# Altium schematic symbol library amp.SchLib: 167 symbols (part 2 of 2)
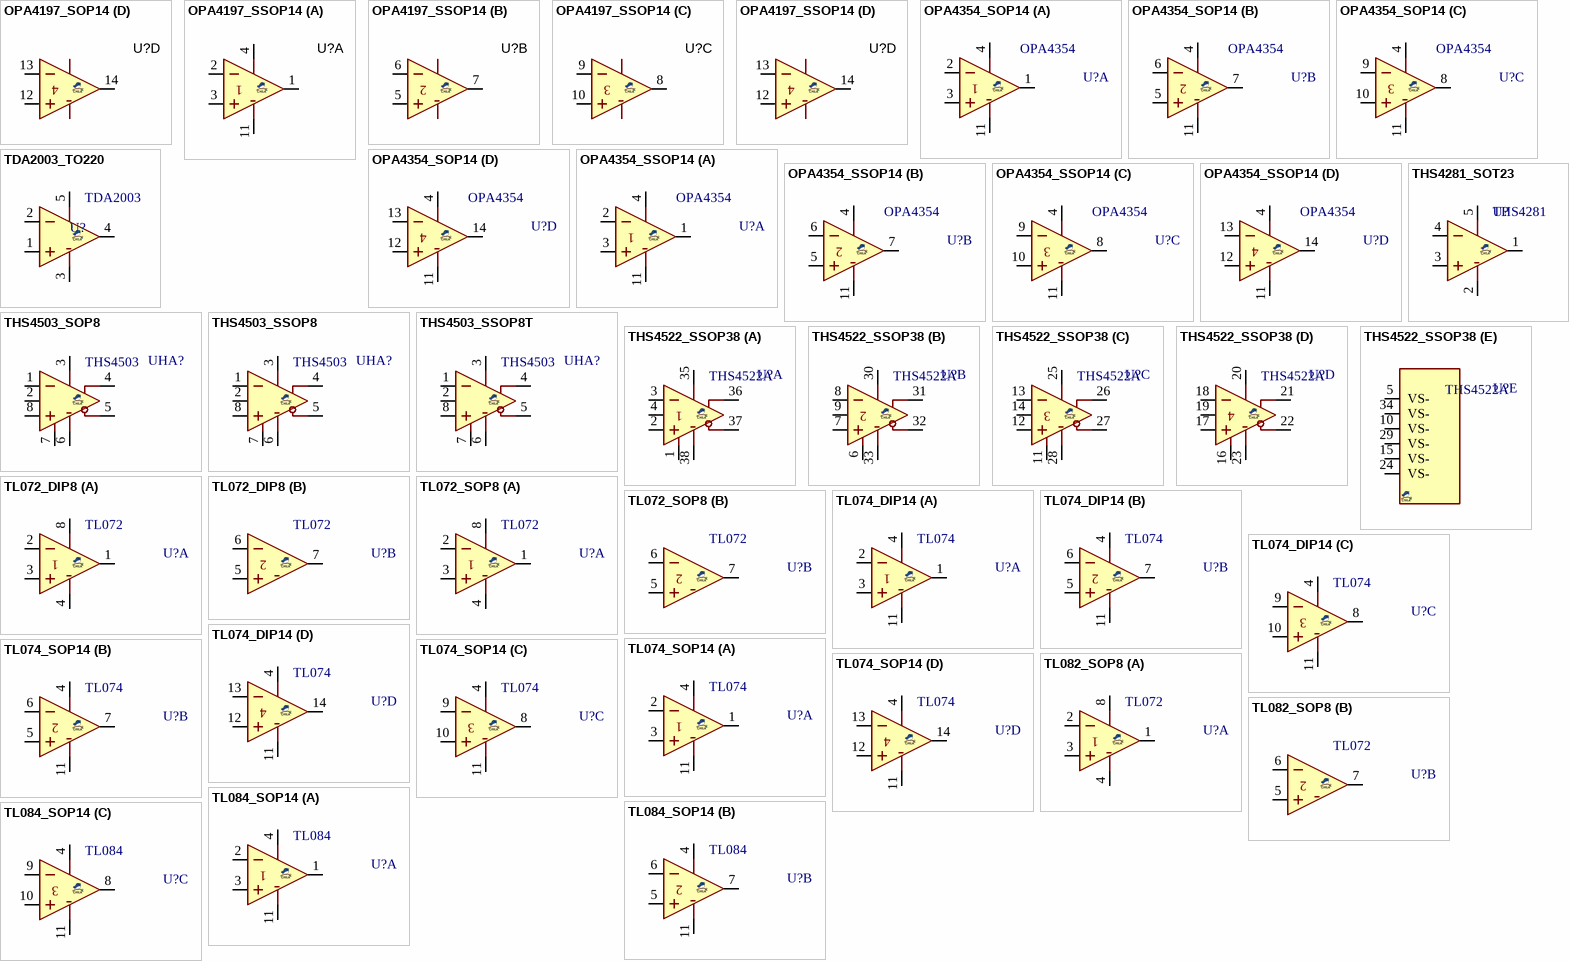
[diagram p8: symbols OPA4197_SOP14 to TL084_SOP14]

## OPA4354_SOP14
designator U?, comment OPA4354
AMP, Low Noise, Rail-to-Rail, Single-Supply; MANF: Texas Instruments; MANF_P#: OPA4354AID; PARAM2: 2.5~5.5V, 6.5nV/√Hz, 250MHz BW; PARAM: 100mA out, 3pA in, 150v/us, -40~125°C; PRICE: 3.8$; VALUE: OPA4354
footprint SO_14 (SOP, SOIC, 3.9mm width, 1.27mm pitch,)
part A pins: 1 OUT, 2 IN-, 3 IN+, 4 V+, 11 V-
part B pins: 4 V+, 5 IN+, 6 IN-, 7 OUT, 11 V-
part C pins: 4 V+, 8 OUT, 9 IN-, 10 IN+, 11 V-
part D pins: 4 V+, 11 V-, 12 IN+, 13 IN-, 14 OUT

## OPA4354_SSOP14
designator U?, comment OPA4354
AMP, Low Noise, Rail-to-Rail, Single-Supply; MANF: Texas Instruments; MANF_P#: OPA4354AIPW; PARAM2: 2.5~5.5V, 6.5nV/√Hz, 250MHz BW; PARAM: 100mA out, 3pA in, 150v/us, -40~125°C; PRICE: 3.8$; VALUE: OPA4354
footprint SOG65_14 (PW TSSOP (TI), MO-153-AB (JEDEC), 14Lead, pitch: 0.65mm, 5x4.4x1.2mm)
part A pins: 1 OUT, 2 IN-, 3 IN+, 4 V+, 11 V-
part B pins: 4 V+, 5 IN+, 6 IN-, 7 OUT, 11 V-
part C pins: 4 V+, 8 OUT, 9 IN-, 10 IN+, 11 V-
part D pins: 4 V+, 11 V-, 12 IN+, 13 IN-, 14 OUT

## TDA2003_TO220
designator U?, comment TDA2003
AMP, Audio, Power Amp 10W; MANF: ST; MANF_P#: TDA2003; VALUE: TDA2003
footprint TO220_5_T05D (TO-220 BEND, T05D)
pins: 1 IN+, 2 IN-, 3 V-, 4 VOUT, 5 V+

## THS4281_SOT23
designator U?, comment THS4281
AMP, High Speed, Very Lo-Pwr, rail-to-rail; MANF: Texas Instruments; MANF_P#: THS4281DBV; VALUE: THS4281
footprint SOT23_5 (SOT-23-5, SOT25, SOT-25, DBV(R-PDSO-G5), TSOT23-5, SC-74A, SOT23-5, S5-T (LINEAR), MO-178AA, MO-193AB(JEDEC), MF05A (NS), TSOP-6(ON), UJ-5 (AD))
pins: 1 OUT, 2 V-, 3 IN+, 4 IN-, 5 V+

## THS4503_SOP8
designator UHA?, comment THS4503
AMP, Differential, Hi-Sp, Fully-Diff; MANF: Texas Instruments; PARAM: 300MHz BW; MANF_P#: THS4503ID; PRICE: 1= 11.26$; PARAM2: PARAM2; VALUE: THS4503
footprint SO_8
pins: 1 IN-, 2 VCM (power), 3 VS+ (power), 4 OUT+, 5 OUT-, 6 VS- (power), 7 PD#, 8 IN+

## THS4503_SSOP8
designator UHA?, comment THS4503
AMP, Differential, Hi-Sp, Fully-Diff; MANF: Texas Instruments; PARAM: 300MHz BW; MANF_P#: THS4503IDGK; PRICE: 1= 11.26$; PARAM2: PARAM2; VALUE: THS4503
footprint SOG65_8_3 (pitch: 0.65mm, 3.0mmX3.0mm, SSOP DCT SM8 (TI), TSSOP8, MICRO8, DGK, MSOP8, RM-8, MS8, MSOP-8, usop8/8uSOP)
pins: 1 IN-, 2 VCM (power), 3 VS+ (power), 4 OUT+, 5 OUT-, 6 VS- (power), 7 PD#, 8 IN+

## THS4503_SSOP8T
designator UHA?, comment THS4503
AMP, Differential, Hi-Sp, Fully-Diff; MANF: Texas Instruments; PARAM: 300MHz BW; MANF_P#: THS4503IDGN; PRICE: 1= 11.26$; PARAM2: PARAM2; VALUE: THS4503
footprint SOG65_8T_3
pins: 1 IN-, 2 VCM (power), 3 VS+ (power), 4 OUT+, 5 OUT-, 6 VS- (power), 7 PD#, 8 IN+

## THS4522_SSOP38
designator U?, comment THS4522A
AMP, Quad, Differential, Hi-Sp, Fully-Diff; MANF: Texas Instruments; MANF_P#: THS4524IDBT; PARAM: 145MHz BW; VALUE: THS4522A
footprint SOG50_38 (38L TSSOP (MAXIM),38Lead, pitch: 0.5mm, 10x4.4x1.2mm)
part A pins: 1 PD#1, 2 I1P, 3 I1N, 4 CM1 (power), 35 VS1+ (power), 36 O1P, 37 O1N, 38 VS1- (power)
part B pins: 6 PD#2, 7 I2P, 8 I2N, 9 CM2 (power), 30 VS2+ (power), 31 O2P, 32 O2N, 33 VS2- (power)
part C pins: 11 PD#3, 12 I3P, 13 I3N, 14 CM3 (power), 25 VS3+ (power), 26 O3P, 27 O3N, 28 VS3- (power)
part D pins: 16 PD#4, 17 I4P, 18 I4N, 19 CM4 (power), 20 VS4+ (power), 21 O4P, 22 O4N, 23 VS4- (power)
part E pins: 5 VS- (power), 10 VS- (power), 15 VS- (power), 24 VS- (power), 29 VS- (power), 34 VS- (power)

## TL072_DIP8
designator U?, comment TL072
AMP, Dual, Lo-Noise, JFET Input; MANF: Texas Instruments; MANF_P#: TL072IP; VALUE: TL072
footprint DIP_8 (DIP, pitch 2.54mm, 300mil Width)
part A pins: 1 OUT1, 2 IN1-, 3 IN2+, 4 V-, 8 V+
part B pins: 5 IN2+, 6 IN2-, 7 OUT2

## TL072_SOP8
designator U?, comment TL072
AMP, Dual, Lo-Noise, JFET Input; MANF: Texas Instruments; MANF_P#: TL072CDR, TL072IDR; VALUE: TL072
footprint SO_8
part A pins: 1 OUT1, 2 IN1-, 3 IN2+, 4 V-, 8 V+
part B pins: 5 IN2+, 6 IN2-, 7 OUT2

## TL074_DIP14
designator U?, comment TL074
AMP, Quad, Low-Noise JFET-Input; MANF: Texas Instruments; MANF_P#: TL074CN, TL074BCN; VALUE: TL074
footprint DIP_14 (DIP, pitch 2.54mm, 300mil Width)
pins on every part: 4 V+, 11 V-
part A pins: 1 OUT, 2 IN-, 3 IN+
part B pins: 5 IN+, 6 IN-, 7 OUT
part C pins: 8 OUT, 9 IN-, 10 IN+
part D pins: 12 IN+, 13 IN-, 14 OUT

## TL074_SOP14
designator U?, comment TL074
AMP, Quad, Low-Noise JFET-Input; MANF: Texas Instruments, ST; MANF_P#: TL074CD, TL074ACD, TL074QDREP, TL074BCD, TL074ID, TL074MDEP; VALUE: TL074
footprint SO_14
pins on every part: 4 V+, 11 V-
part A pins: 1 OUT, 2 IN-, 3 IN+
part B pins: 5 IN+, 6 IN-, 7 OUT
part C pins: 8 OUT, 9 IN-, 10 IN+
part D pins: 12 IN+, 13 IN-, 14 OUT

## TL082_SOP8
designator U?, comment TL072
AMP, Dual, Lo-Noise, JFET Input; MANF: Texas Instruments, ST; MANF_P#: TL082CD, TL082ID, TL082BCD, TL082CMX; VALUE: TL072
footprint SO_8
part A pins: 1 OUT1, 2 IN1-, 3 IN2+, 4 V-, 8 V+
part B pins: 5 IN2+, 6 IN2-, 7 OUT2

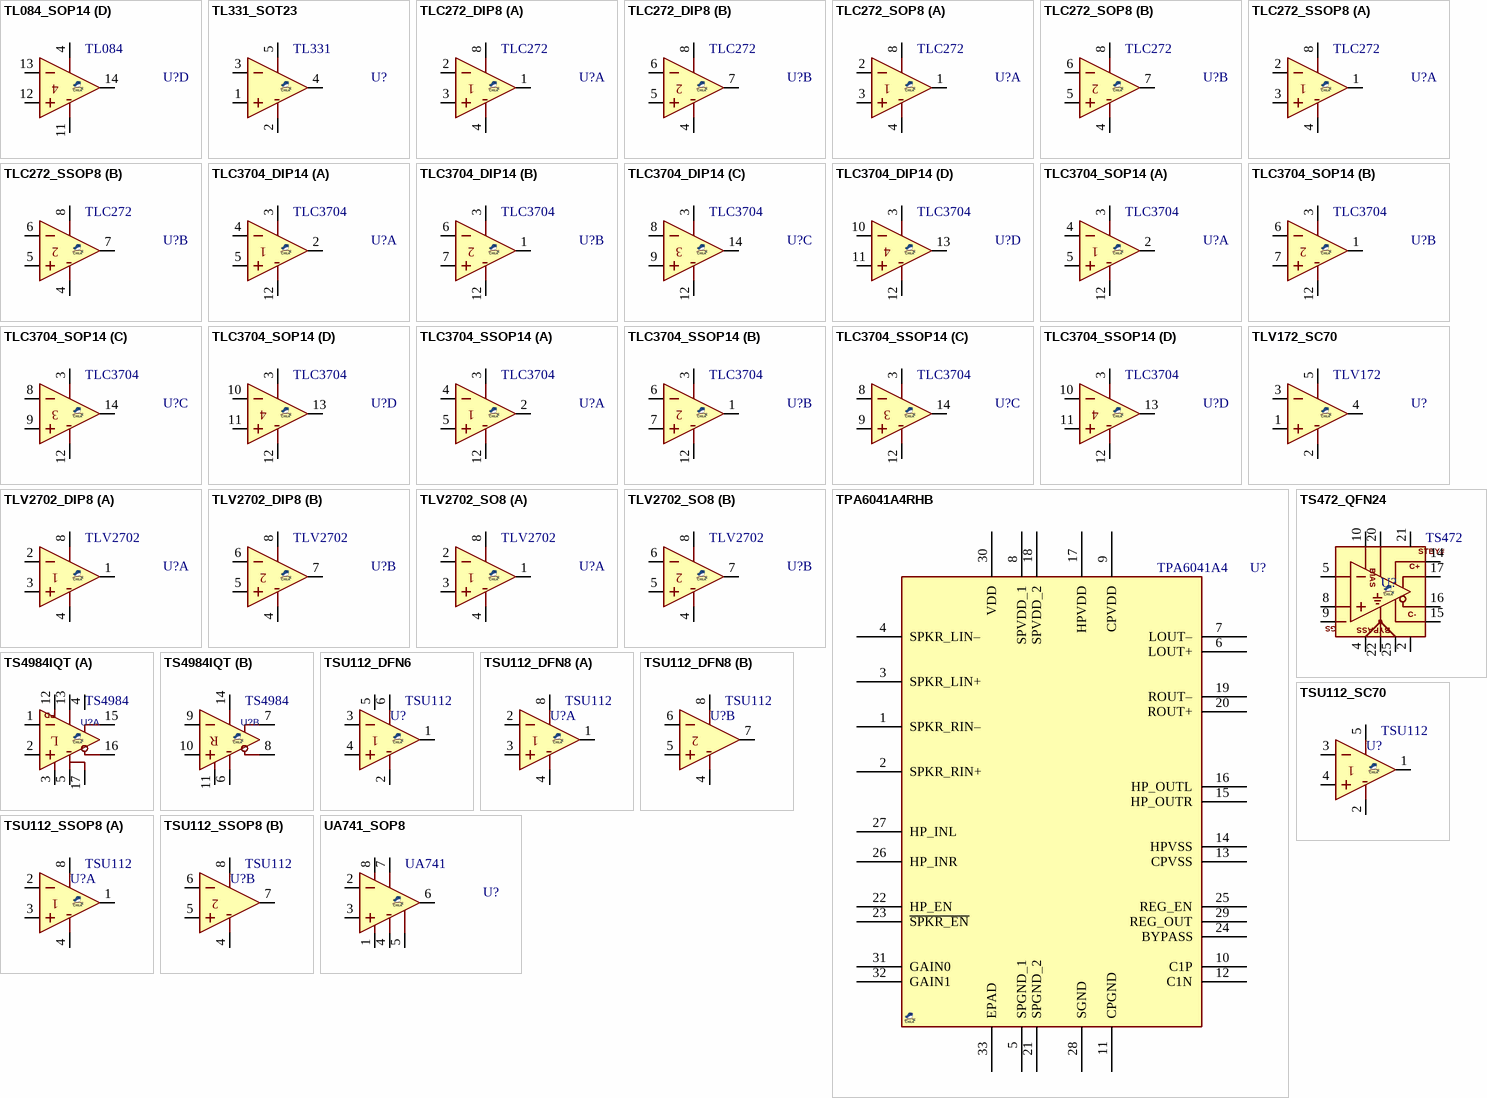
[diagram p7: symbols TL084_SOP14 to UA741_SOP8]

## TL084_SOP14
designator U?, comment TL084
AMP, Quad, Low-Noise JFET-Input, LowPower; MANF: Texas Instruments, ST; MANF_P#: TL084ID; PARAM2: ±18VCC, ±30Vindiff, -40~85oC; VALUE: TL084
footprint SO_14
pins on every part: 4 V+, 11 V-
part A pins: 1 OUT, 2 IN-, 3 IN+
part B pins: 5 IN+, 6 IN-, 7 OUT
part C pins: 8 OUT, 9 IN-, 10 IN+
part D pins: 12 IN+, 13 IN-, 14 OUT

## TL331_SOT23
designator U?, comment TL331
Comparator, Low input 25nA; MANF: ON; MANF_P#: TL331SN4T3G, TL331VSN4T3G; PARAM2: 2~36V/±1~±18V; PARAM: 25nA INPUT, -40~125oC; PRICE: 0.6$; VALUE: TL331
footprint SOT23_5 (SOT-23-5, SOT25, SOT-25, DBV(R-PDSO-G5), TSOT23-5, SC-74A, SOT23-5, S5-T (LINEAR), MO-178AA, MO-193AB(JEDEC), MF05A (NS), TSOP-6(ON), UJ-5 (AD), 0.95mm pitch 3X1.5mm)
pins: 1 IN+, 2 V-, 3 IN-, 4 OUT, 5 V+

## TLC272_DIP8
designator U?, comment TLC272
AMP, Dual,; MANF: Texas Instruments; MANF_P#: TLC272CP, TLC272IP; VALUE: TLC272
footprint DIP_8 (DIP, pitch 2.54mm, 300mil Width)
part A pins: 1 OUT, 2 IN-, 3 IN+, 4 V-, 8 V+
part B pins: 4 V-, 5 IN+, 6 IN-, 7 OUT, 8 V+

## TLC272_SOP8
designator U?, comment TLC272
AMP, Dual,; MANF: Texas Instruments; MANF_P#: TLC272CD, TLC272AID, TLC272ID, TLC272BID, TLC272CPS, TLC272BCD, TLC272AID; VALUE: TLC272
footprint SO_8
part A pins: 1 OUT, 2 IN-, 3 IN+, 4 V-, 8 V+
part B pins: 4 V-, 5 IN+, 6 IN-, 7 OUT, 8 V+

## TLC272_SSOP8
designator U?, comment TLC272
AMP, Dual,; MANF: Texas Instruments; MANF_P#: TLC272CPW; VALUE: TLC272
footprint SOG65_8 (PW TSSOP (TI), MO-153 (JEDEC), 8Lead, pitch: 0.65mm, 3x4.4x1.2mm)
part A pins: 1 OUT, 2 IN-, 3 IN+, 4 V-, 8 V+
part B pins: 4 V-, 5 IN+, 6 IN-, 7 OUT, 8 V+

## TLC3704_DIP14
designator U?, comment TLC3704
Comparator, Quad, Micropower Push-Pull Output; MANF: Texas Instruments; MANF_P#: TLC3704IN, TLC3704CN; PARAM2: +3~+16 V; VALUE: TLC3704
footprint DIP_14 (DIP, pitch 2.54mm, 300mil Width)
pins on every part: 3 V+, 12 V-
part A pins: 2 OUT, 4 IN-, 5 IN+
part B pins: 1 OUT, 6 IN-, 7 IN+
part C pins: 8 IN-, 9 IN+, 14 OUT
part D pins: 10 IN-, 11 IN+, 13 OUT

## TLC3704_SOP14
designator U?, comment TLC3704
Comparator, Quad, Micropower Push-Pull Output; MANF: Texas Instruments; MANF_P#: TLC3704ID, TLC3704CD; PARAM2: +3~+16 V; VALUE: TLC3704
footprint SO_14
pins on every part: 3 V+, 12 V-
part A pins: 2 OUT, 4 IN-, 5 IN+
part B pins: 1 OUT, 6 IN-, 7 IN+
part C pins: 8 IN-, 9 IN+, 14 OUT
part D pins: 10 IN-, 11 IN+, 13 OUT

## TLC3704_SSOP14
designator U?, comment TLC3704
Comparator, Quad, Micropower Push-Pull Output; MANF: Texas Instruments; MANF_P#: TLC3704IPW, TLC3704CPW; PARAM2: +3~+16V; VALUE: TLC3704
footprint SOG65_14 (PW TSSOP (TI), MO-153-AB (JEDEC), 14Lead, pitch: 0.65mm, 5x4.4x1.2mm)
pins on every part: 3 V+, 12 V-
part A pins: 2 OUT, 4 IN-, 5 IN+
part B pins: 1 OUT, 6 IN-, 7 IN+
part C pins: 8 IN-, 9 IN+, 14 OUT
part D pins: 10 IN-, 11 IN+, 13 OUT

## TLV172_SC70
designator U?, comment TLV172
AMP, Lo-Noise, 10MHz; MANF: Texas Instruments; MANF_P#: TLV172IDCK; PARAM2: 4.5~36V/±2.25~±18V; PARAM: 10MHz, -40~125oC; PRICE: 1.1$; VALUE: TLV172
footprint SOT353_5 (SC-88A, SC70-5, SOT-353, DCK (TI), 0.65mm pitch 2X1.3mm body)
pins: 1 IN+, 2 V-, 3 IN-, 4 OUT, 5 V+

## TLV2702_DIP8
designator U?, comment TLV2702
AMP, Dual, NANOPOWER, PUSH-PULL COMPARATORS; MANF: Texas Instruments; MANF_P#: TLV2702IP; VALUE: TLV2702
footprint DIP_8 (DIP, pitch 2.54mm, 300mil Width)
part A pins: 1 OUT, 2 IN-, 3 IN+, 4 V-, 8 V+
part B pins: 4 V-, 5 IN+, 6 IN-, 7 OUT, 8 V+

## TLV2702_SO8
designator U?, comment TLV2702
AMP, Dual, NANOPOWER, PUSH-PULL COMPARATORS; MANF: Texas Instruments; MANF_P#: TLV2702ID; VALUE: TLV2702
footprint SO_8
part A pins: 1 OUT, 2 IN-, 3 IN+, 4 V-, 8 V+
part B pins: 4 V-, 5 IN+, 6 IN-, 7 OUT, 8 V+

## TPA6041A4RHB
designator U?, comment TPA6041A4
AMP, AUDIO, PWR 2.6W, AB 32VQFN; MANF: Texas Instruments; MANF_P#: TPA6041A4RHB; PARAM2: 4.5~5.5V; PRICE: 1=3, 10=2.707, 25=2.4252, 100=2.1808, 250=1.9364, 500=1.692, 1000=1.4006 (USD); VALUE: TPA6041A4
footprint QFN50_32T (QFN, 32, 5X5mm, 0.5mm)
pins: 1 SPKR_RIN–, 2 SPKR_RIN+, 3 SPKR_LIN+, 4 SPKR_LIN–, 5 SPGND_1, 6 LOUT+, 7 LOUT–, 8 SPVDD_1, 9 CPVDD, 10 C1P, 11 CPGND, 12 C1N, 13 CPVSS, 14 HPVSS, 15 HP_OUTR, 16 HP_OUTL, 17 HPVDD, 18 SPVDD_2, 19 ROUT–, 20 ROUT+, 21 SPGND_2, 22 HP_EN, 23 ~{SPKR_EN}, 24 BYPASS, 25 REG_EN, 26 HP_INR, 27 HP_INL, 28 SGND, 29 REG_OUT, 30 VDD, 31 GAIN0, 32 GAIN1, 33 EPAD

## TS472_QFN24
designator U?, comment TS472
AMP, Low noise microphone preamp; MANF: STMicroelectronics; MANF_P#: TS472IQT; PARAM2: 2.2~5.5V, 10nV/√Hz, 40KHz BW; PARAM: 2V mic bias output, -40~85°C; PRICE: 1.3$; VALUE: TS472
footprint QFN50_24T (MO-220 (JEDEC), RGE S-PQFP-N24 (TI), 4X4mm, 0.5mm, HVQFN24)
pins: 2 BYPASS, 4 GND, 5 IN-, 8 IN+, 9 GAINSELECT, 10 BIAS, 14 C+, 15 C-, 16 OUT-, 17 OUT+, 20 VCC, 21 ~{STBY}, 22 GND, 25 EP
text: STBY#; GS

## TS4984IQT
designator U?, comment TS4984
AMP, AUDIO, PWR 1.2W, 2.2-5.5V AB 16TQFN; MANF: ST Microelectronics; MANF_P#: TS4984IQT; PARAM2: 2.2-5.5V; PARAM: 1.2W; VALUE: TS4984
footprint QFN50_16T_4X4 (QFN, 16, 4X4mm, 0.5mm)
part A pins: 1 IN-L, 2 IN+L, 3 BYPASSL, 4 NC, 5 GND1 (power), 12 STBY#, 13 VCC1 (power), 15 VO+L, 16 VO-L, 17 EP (power)
part B pins: 6 GND2 (power), 7 VO+R, 8 VO-R, 9 IN-R, 10 IN+R, 11 BYPASSR, 14 VCC2 (power)
part A text: PD; L
part B text: R

## TSU112_DFN6
designator U?, comment TSU112
AMP, Low-Power; MANF: STMicroelectronics; MANF_P#: TSU111IQ1T; PARAM2: 1.5~5.5VCC, 150uVoffset, 3.8uVin noise; PARAM: 10pA input, 900nA, -40~85°C; PRICE: 2$; VALUE: TSU112
footprint SON40_6_1213 (DFN6 1.2x1.3mm, 6-Leads, Pitch 0.40mm)
pins: 1 OUT, 2 V-, 3 IN-, 4 IN+, 5 NC, 6 V+

## TSU112_DFN8
designator U?, comment TSU112
AMP, DuaL, Low-Power; MANF: STMicroelectronics; MANF_P#: TSU112IQ2T; PARAM2: 1.5~5.5VCC, 150uVoffset, 3.8uVin noise; PARAM: 10pA input, 900nA, -40~85°C; PRICE: 2$; VALUE: TSU112
footprint SON50_8T_2X2 (DSG PWSON (TI), Pitch: 0.5mm 2x2x0.8mm with Thermal pad)
pins on every part: 4 V-, 8 V+
part A pins: 1 OUT, 2 IN-, 3 IN+
part B pins: 5 IN+, 6 IN-, 7 OUT

## TSU112_SC70
designator U?, comment TSU112
AMP, Low-Power; MANF: STMicroelectronics; MANF_P#: TSU111IQ1T; PARAM2: 1.5~5.5VCC, 150uVoffset, 3.8uVin noise; PARAM: 10pA input, 900nA, -40~85°C; PRICE: 2$; VALUE: TSU112
footprint SOT353_5 (SC-88A, SC70-5, TSSOP5, SOT-353, DCK (TI), 0.65mm pitch 2X1.3mm body)
pins: 1 OUT, 2 V-, 3 IN-, 4 IN+, 5 V+

## TSU112_SSOP8
designator U?, comment TSU112
AMP, Dual, Low-Power; MANF: STMicroelectronics; MANF_P#: TSU112IST; PARAM2: 1.5~5.5VCC, 150uVoffset, 3.8uVin noise; PARAM: 10pA input, 900nA, -40~85°C; PRICE: 2$; VALUE: TSU112
footprint SOG65_8_3 (TSSOP8, MICRO8, DGK VSSOP-8, pitch: 0.65mm, 3X3mm, MSOP8, RM-8, MS8, MSOP-8, TSSO3X5-G8/D3.1, 8 uMAX, usop8/8uSOP, MO-187AA, MO-153AA, SSOP DCT (TI))
pins on every part: 4 V-, 8 V+
part A pins: 1 OUT, 2 IN-, 3 IN+
part B pins: 5 IN+, 6 IN-, 7 OUT

## UA741_SOP8
designator U?, comment UA741
AMP, General-Purpose; MANF: ST, Texas Instruments; MANF_P#: UA741ID, UA741CDR; VALUE: UA741
footprint SO_8
pins: 1 OFFSET_NULL, 2 IN-, 3 IN+, 4 V-, 5 OFFSET_NULL, 6 OUT, 7 V+, 8 NC